# EAGLE library part IC_FET_BRIDGE (library brickster)
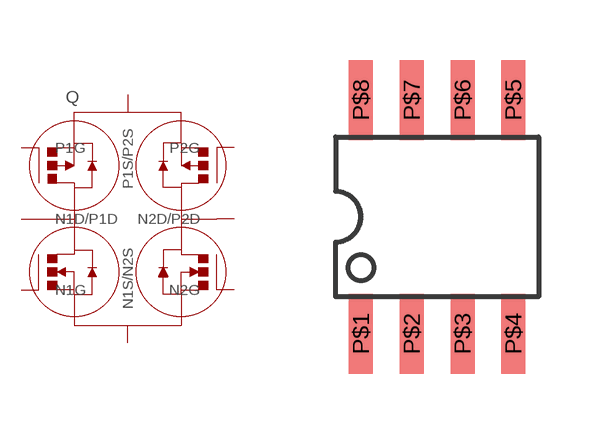
[diagram p3: symbol with the pads of SO8; footprint SO8]

Designator prefix Q

## IC_FET_BRIDGESO8  [SO8]
P$1  N1G
P$2  N1D/P1D
P$3  N1S/N2S
P$4  N2G
P$5  P2G
P$6  N2D/P2D
P$7  P1S/P2S
P$8  P1G

## Footprint SO8 (pad centres in mm)
smd 0.6 x 2: P$1 -1.905,-2.925; P$2 -0.635,-2.925; P$3 0.635,-2.925; P$4 1.905,-2.925; P$5 1.905,2.925; P$6 0.635,2.925; P$7 -0.635,2.925; P$8 -1.905,2.925